# Altium footprint library IRIS-W1_LGA150.PcbLib: 1 footprints
Each footprint in its own frame and in the unit in brackets; x right, y up, seen from the top. Pads: shape width x height; smd on the part's side, far side on the other; paste and mask are expansions set on the pad; w line width, h text height; cw(c..) or ccw(c..) is an arc to the next point about the centre after c.
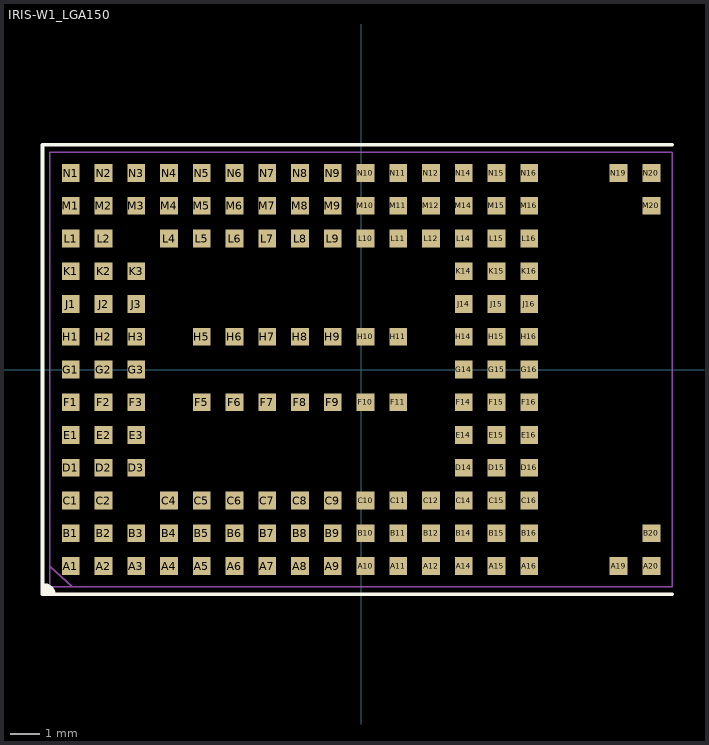
[diagram p0: the footprint, top view; thin cyan lines are the x and y axes]

## IRIS-W1_LGA150 [mm] "IRIS LGA, 150pin ,1.1mm Pitch, 14.4mm x 20.9mm"
height 2.1
pads (150):
  rect 0.6x0.6 smd: A1(-9.75,-6.6) A2(-8.65,-6.6) A3(-7.55,-6.6) A4(-6.45,-6.6) A5(-5.35,-6.6) A6(-4.25,-6.6) A7(-3.15,-6.6) A8(-2.05,-6.6) A9(-0.95,-6.6) A10(0.15,-6.6) A11(1.25,-6.6) A12(2.35,-6.6) A14(3.45,-6.6) A15(4.55,-6.6) A16(5.65,-6.6) A19(8.65,-6.6) A20(9.75,-6.6) B1(-9.75,-5.5) B2(-8.65,-5.5) B3(-7.55,-5.5) B4(-6.45,-5.5) B5(-5.35,-5.5) B6(-4.25,-5.5) B7(-3.15,-5.5) B8(-2.05,-5.5) B9(-0.95,-5.5) B10(0.15,-5.5) B11(1.25,-5.5) B12(2.35,-5.5) B14(3.45,-5.5) B15(4.55,-5.5) B16(5.65,-5.5) B20(9.75,-5.5) C1(-9.75,-4.4) C2(-8.65,-4.4) C4(-6.45,-4.4) C5(-5.35,-4.4) C6(-4.25,-4.4) C7(-3.15,-4.4) C8(-2.05,-4.4) C9(-0.95,-4.4) C10(0.15,-4.4) C11(1.25,-4.4) C12(2.35,-4.4) C14(3.45,-4.4) C15(4.55,-4.4) C16(5.65,-4.4) D1(-9.75,-3.3) D2(-8.65,-3.3) D3(-7.55,-3.3) D14(3.45,-3.3) D15(4.55,-3.3) D16(5.65,-3.3) E1(-9.75,-2.2) E2(-8.65,-2.2) E3(-7.55,-2.2) E14(3.45,-2.2) E15(4.55,-2.2) E16(5.65,-2.2) F1(-9.75,-1.1) F2(-8.65,-1.1) F3(-7.55,-1.1) F5(-5.35,-1.1) F6(-4.25,-1.1) F7(-3.15,-1.1) F8(-2.05,-1.1) F9(-0.95,-1.1) F10(0.15,-1.1) F11(1.25,-1.1) F14(3.45,-1.1) F15(4.55,-1.1) F16(5.65,-1.1) G1(-9.75,0) G2(-8.65,0) G3(-7.55,0) G14(3.45,0) G15(4.55,0) G16(5.65,0) H1(-9.75,1.1) H2(-8.65,1.1) H3(-7.55,1.1) H5(-5.35,1.1) H6(-4.25,1.1) H7(-3.15,1.1) H8(-2.05,1.1) H9(-0.95,1.1) H10(0.15,1.1) H11(1.25,1.1) H14(3.45,1.1) H15(4.55,1.1) H16(5.65,1.1) J1(-9.75,2.2) J2(-8.65,2.2) J3(-7.55,2.2) J14(3.45,2.2) J15(4.55,2.2) J16(5.65,2.2) K1(-9.75,3.3) K2(-8.65,3.3) K3(-7.55,3.3) K14(3.45,3.3) K15(4.55,3.3) K16(5.65,3.3) L1(-9.75,4.4) L2(-8.65,4.4) L4(-6.45,4.4) L5(-5.35,4.4) L6(-4.25,4.4) L7(-3.15,4.4) L8(-2.05,4.4) L9(-0.95,4.4) L10(0.15,4.4) L11(1.25,4.4) L12(2.35,4.4) L14(3.45,4.4) L15(4.55,4.4) L16(5.65,4.4) M1(-9.75,5.5) M2(-8.65,5.5) M3(-7.55,5.5) M4(-6.45,5.5) M5(-5.35,5.5) M6(-4.25,5.5) M7(-3.15,5.5) M8(-2.05,5.5) M9(-0.95,5.5) M10(0.15,5.5) M11(1.25,5.5) M12(2.35,5.5) M14(3.45,5.5) M15(4.55,5.5) M16(5.65,5.5) M20(9.75,5.5) N1(-9.75,6.6) N2(-8.65,6.6) N3(-7.55,6.6) N4(-6.45,6.6) N5(-5.35,6.6) N6(-4.25,6.6) N7(-3.15,6.6) N8(-2.05,6.6) N9(-0.95,6.6) N10(0.15,6.6) N11(1.25,6.6) N12(2.35,6.6) N14(3.45,6.6) N15(4.55,6.6) N16(5.65,6.6) N19(8.65,6.6) N20(9.75,6.6)
Top Overlay:
  lines w0.127: 10.45,-7.55 -10.7,-7.55 -10.7,7.55 10.45,7.55
  lines w0.128: -10.643,-7.394 -10.493,-7.544 ; -10.6,-7.35 cw(c-10.6,-7.5) -10.45,-7.5 ; -10.6,-7.25 cw(c-10.625,-7.549) -10.325,-7.549
Mechanical 11:
  text ".Designator" at -5.475,-0.775 h1.5
Mechanical 13:
  lines w0.05: -10.45,-6.6 -9.7,-7.3 ; -10.45,-7.3 10.45,-7.3 10.45,7.3 -10.45,7.3 -10.45,-7.3
Multi-Layer:
  pour cut-out: 9.3,-4.1 10.45,-4.1 10.45,4.1 9.3,4.1 6.9,4.1 6.9,-4.1
3D body "IRIS-W1.step": height 2.16, standoff 0, extent -10.45,-7.3 10.45,7.3